# EAGLE library part 6180XX231121_618009231121 (library 618015233821_Eagle_WR-DSUB_rev20a)
WR-DSUB 8.08 mm Female Angled PCB Connector w. Hex Screw Kind Properties Quality Class：3 as per IEC 60 603-13 Gender:Female Type:Angled Insulator Material:PBT Insulator Flammability Rating:UL94 V-0 Color:Black Contact Material:Copper Alloy Contact Plating:Gold Contact Type:Stamped Shielding Material:Steel Shielding Plating:Nickel General Information Operating Temperature:-55 up to +105 °C Compliance：RoHS Electrical Properties IR 1：3 A Working Voltage:125 V (AC) Withstanding Voltage:1000 V (AC) Contact Resistance:30 mΩ <https://www.we-online.com/catalog/media/o33082v209%20Family_WR-DSUB_6180xx231121.jpg> Details see: https://www.we-online.com/catalog/en/DSUB_FEMALE_ANGLED_PCB_CONNECTOR_W_HEX_SCREW_8_08MM_6180XX231121/ Updated by Yingchun, Shan 2020-01-13 2020 (C) Würth Elektronik
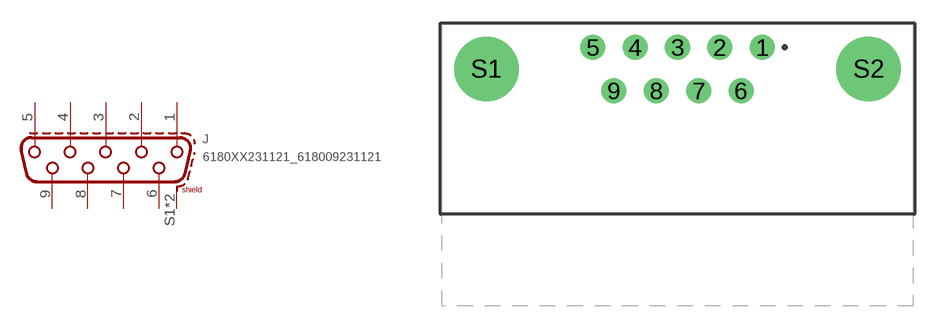
[diagram p18: symbol with the pads of 618009231121; footprint 618009231121]

Designator prefix J

## 6180XX231121_618009231121 (DATASHEET-URL: https://www.we-online.com/catalog/datasheet/618009231121.pdf; GENDER: Female; MATES-WITH: WR-DSUB 10.30 mm Male Angled PCB Connector w/o Hex Screw/8.08 mm Male Angled PCB Connector w/o Hex Screw/Female Terminal Housing /Male IDC /Male PCB Connector /Male Solder Bucket; PART-NUMBER: 618009231121; PINS: 9; TYPE: Angled; WE-NUMBER: 618009231121)  [618009231121]
1  1
2  2
3  3
4  4
5  5
6  6
7  7
8  8
9  9
S1  SHIELD
S2  SHIELD

## Footprint 618009231121 (pad centres in mm)
WR-DSUB 8.08 mm Female Angled PCB Connector w. Hex Screw, 9 Pins
drill 1.09: 1 5.54,7.72; 2 2.77,7.72; 3 0,7.72; 4 -2.77,7.72; 5 -5.54,7.72; 6 4.155,4.88; 7 1.385,4.88; 8 -1.385,4.88; 9 -4.155,4.88
drill 3.2: S1 -12.5,6.3; S2 12.5,6.3